# Altium footprint library ER900TRS.PcbLib: 1 footprints
Each footprint in its own frame and in the unit in brackets; x right, y up, seen from the top. Pads: shape width x height; smd on the part's side, far side on the other; paste and mask are expansions set on the pad; w line width, h text height; cw(c..) or ccw(c..) is an arc to the next point about the centre after c.
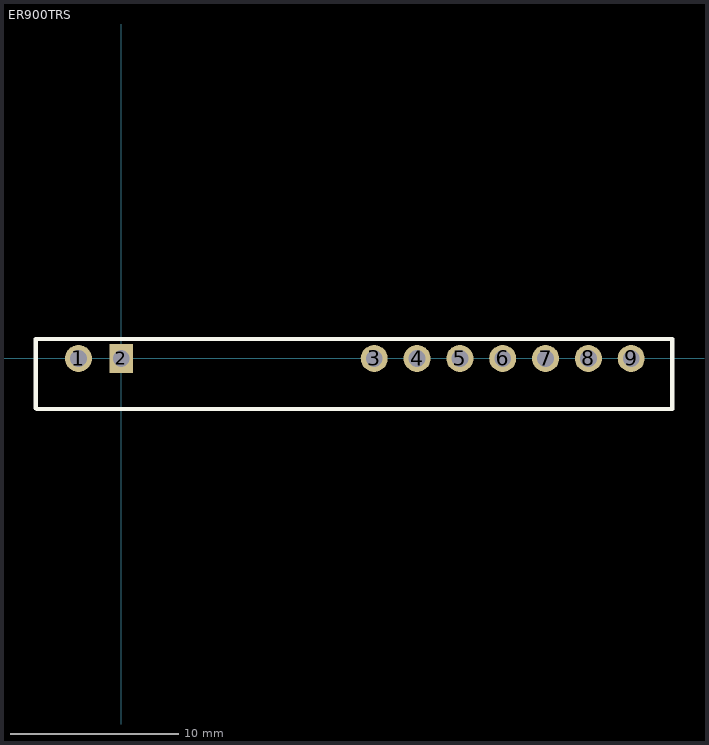
[diagram p0: the footprint, top view; thin cyan lines are the x and y axes]

## ER900TRS [mm] "Easy Radio 900MHz"
height 16
pads (9):
  round 1.6 hole 1: 1(-2.54,0) 3(15,0) 4(17.54,0) 5(20.08,0) 6(22.62,0) 7(25.16,0) 8(27.7,0) 9(30.24,0)
  rect 1.4x1.7 hole 1: 2(0,0)
Top Overlay:
  lines w0.254: -5.07,-2.95 -5.07,1.16 32.67,1.16 32.67,-3 -5.02,-3